# EAGLE library part SN74LV4T125 (library ti)
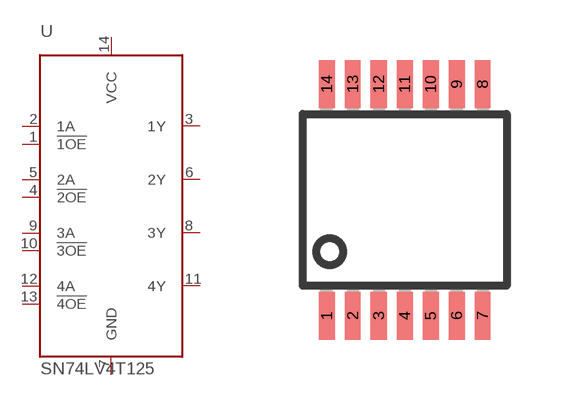
[diagram p5: symbol with the pads of PW_R-PDSO-G14; footprint PW_R-PDSO-G14]

Designator prefix U

## SN74LV4T125  [PW_R-PDSO-G14]
1  !1OE  in
2  1A  in
3  1Y  out
4  !2OE  in
5  2A  in
6  2Y  out
7  GND  pwr
8  3Y  out
9  3A  in
10  !3OE  in
11  4Y  out
12  4A  in
13  !4OE  in
14  VCC  pwr

## Footprint PW_R-PDSO-G14 (pad centres in mm)
smd 0.4 x 1.2: 1 -1.95,-2.9; 2 -1.3,-2.9; 3 -0.65,-2.9; 4 0,-2.9; 5 0.65,-2.9; 6 1.3,-2.9; 7 1.95,-2.9; 8 1.95,2.9; 9 1.3,2.9; 10 0.65,2.9; 11 0,2.9; 12 -0.65,2.9; 13 -1.3,2.9; 14 -1.95,2.9